# Altium footprint library DBE1010HB-220Mcor.PcbLib: 1 footprints
Each footprint in its own frame and in the unit in brackets; x right, y up, seen from the top. Pads: shape width x height; smd on the part's side, far side on the other; paste and mask are expansions set on the pad; w line width, h text height; cw(c..) or ccw(c..) is an arc to the next point about the centre after c.
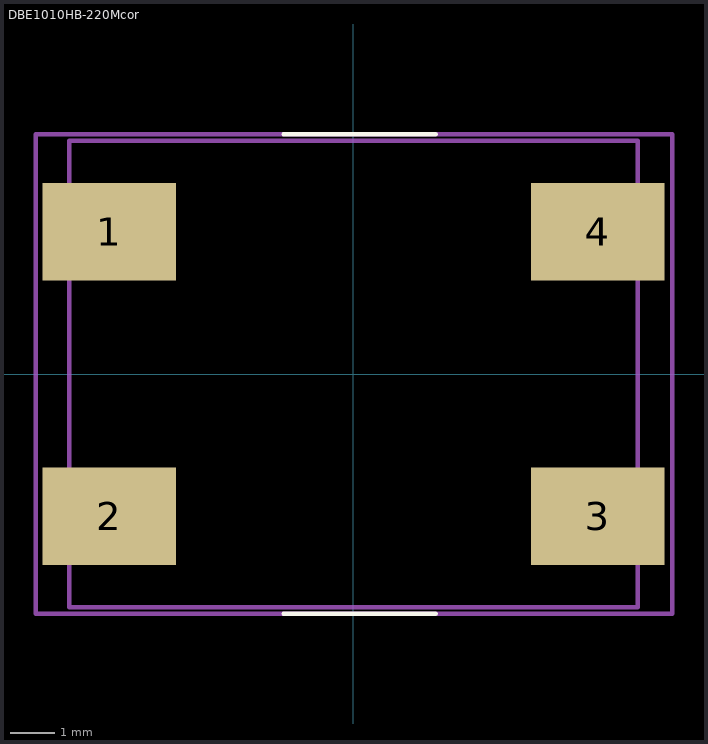
[diagram p0: the footprint, top view; thin cyan lines are the x and y axes]

## DBE1010HB-220Mcor [mm]
pads (4):
  rect 3x2.2 smd: 1(-5.5,3.2) 2(-5.5,-3.2) 3(5.5,-3.2) 4(5.5,3.2)
Top Overlay:
  lines w0.1: -1.575,-5.4 1.85,-5.4 ; -1.575,5.4 1.85,5.4
Mechanical 1:
  lines w0.1: -6.4,-5.25 6.4,-5.25 6.4,5.25 -6.4,5.25 -6.4,-5.25
Mechanical 15:
  lines w0.1: -7.15,-5.4 7.175,-5.4 7.175,5.4 -7.15,5.4 -7.15,-3.85 -7.15,-5.4
3D body: height 3.5, standoff 0, extent -6.4,-5.25 6.4,5.25